# Altium footprint library FootPrint_lib.PcbLib: 24 footprints (part 2 of 2)
Each footprint in its own frame and in the unit in brackets; x right, y up, seen from the top. Pads: shape width x height; smd on the part's side, far side on the other; paste and mask are expansions set on the pad; w line width, h text height; cw(c..) or ccw(c..) is an arc to the next point about the centre after c.
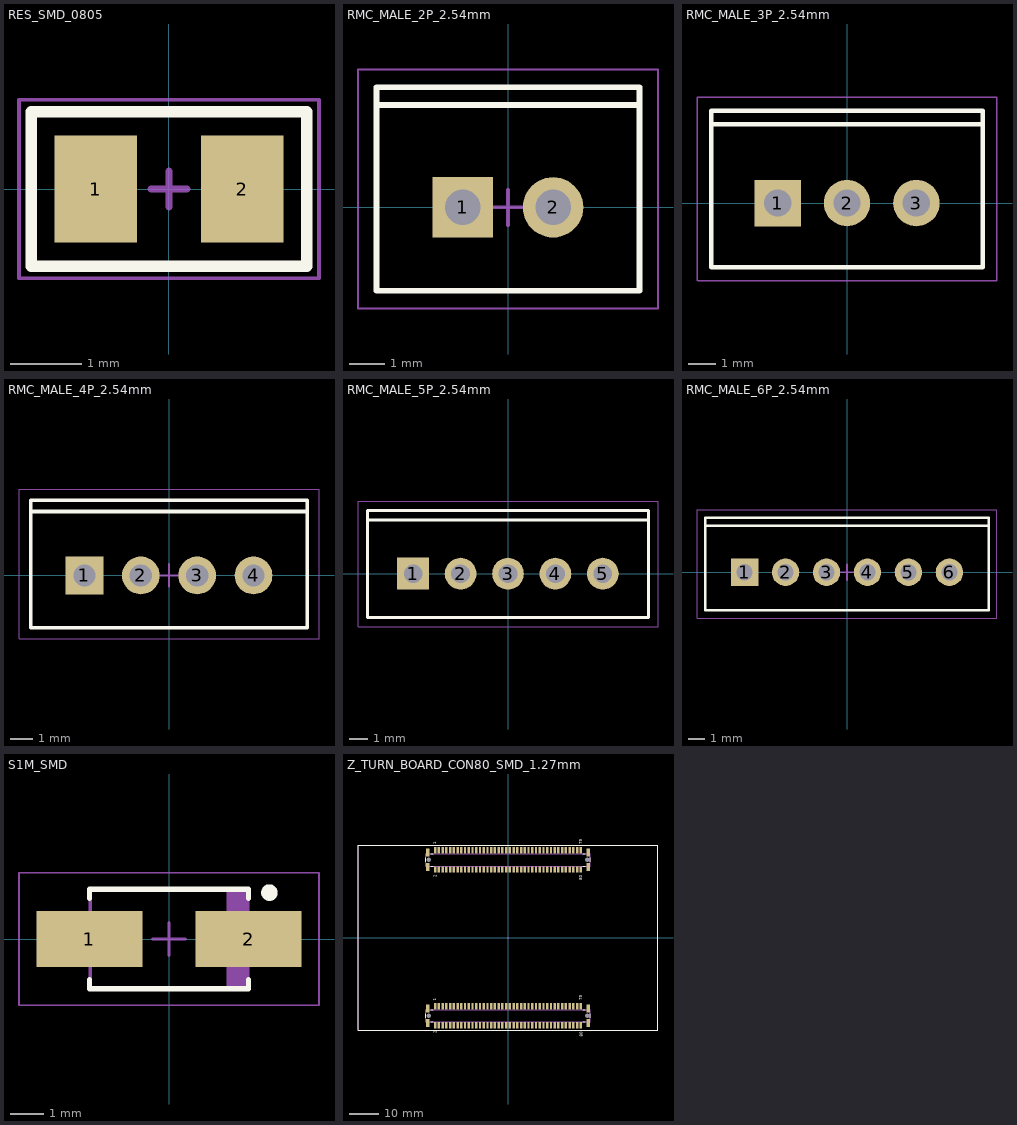
[diagram p1: the footprints below, top view; thin cyan lines are the x and y axes]

## RES_SMD_0805 [mm] "Chip Resistor, 2-Leads, Body 2.00x1.25mm, IPC Low Density"
height 0.55
pads (2):
  rect 1.15x1.5 smd: 1(-1.025,0) 2(1.025,0)
Top Overlay:
  lines w0.16: -1.93,-1.08 1.93,-1.08 1.93,1.08 -1.93,1.08 -1.93,-1.08
Top Assembly:
  lines w0.1: -1.925,-1.075 -1.925,1.075 1.925,1.075 1.925,-1.075 -1.925,-1.075
Top Courtyard:
  lines w0.05: -2.1,-1.25 2.1,-1.25 2.1,1.25 -2.1,1.25 -2.1,-1.25
Top Component Center:
  lines w0.1: -0.25,0 0.25,0 ; 0,-0.25 0,0.25
3D body "RES_SMD_0805.step": height 0.55, standoff 0, extent -1.05,-0.7 1.05,0.7

## RMC_MALE_2P_2.54mm [mm] "P2.54mm_l7.4mm_W7.4mm_H9.4mm"
height 9.4
pads (2):
  rect 1.7x1.7 hole 1: 1(-1.27,0)
  round 1.7 hole 1: 2(1.27,0)
Top Overlay:
  lines w0.16: -3.7,2.88 3.7,2.88 ; -3.7,-2.35 3.7,-2.35 3.7,3.38 -3.7,3.38 -3.7,-2.35
Top Assembly:
  lines w0.1: -3.72,3.38 -3.7,-2.35 3.7,-2.35 3.7,3.38 -3.7,3.38 ; -3.7,2.88 3.7,2.88
  text "'.Designator'" at -3.646,-0.538 h1.52
Top Courtyard:
  lines w0.05: -4.22,-2.85 -4.22,3.88 ; -4.2,-2.85 4.2,-2.85 ; -4.2,3.88 4.2,3.88 ; 4.22,-2.85 4.22,3.88
Top Component Center:
  lines w0.1: -0.5,0 0.5,0 ; 0,-0.5 0,0.5
3D body "RMC_TH_x2.STEP": height 7, standoff -3.05, extent -3.72,-2.375 3.72,3.375

## RMC_MALE_3P_2.54mm [mm] "P2.54mm_L9.94mm_W7.4mm_H9.4mm"
height 9.4
pads (3):
  rect 1.7x1.7 hole 1: 1(-2.54,0)
  round 1.7 hole 1: 2(0,0) 3(2.54,0)
Top Overlay:
  lines w0.16: -4.97,2.88 4.97,2.88 ; -4.97,-2.35 -4.97,3.38 4.97,3.38 4.97,-2.35 -4.97,-2.35
Top Assembly:
  lines w0.1: -4.99,3.38 -4.97,-2.35 4.97,-2.35 4.97,3.38 -4.97,3.38 ; -4.97,2.88 4.97,2.88
  text "'.Designator'" at -4.916,-0.538 h1.52
Top Courtyard:
  lines w0.05: -5.49,-2.85 -5.49,3.88 5.49,3.88 5.49,-2.85 -5.47,-2.85
Top Component Center:
  lines w0.1: -0.5,0 0.5,0 ; 0,-0.5 0,0.5
3D body "RMC_TH_x3.STEP": height 7, standoff -3.05, extent -4.99,-2.375 4.99,3.375

## RMC_MALE_4P_2.54mm [mm] "P2.54mm_L12.48mm_W7.4mm_H9.4mm"
height 9.4
pads (4):
  rect 1.7x1.7 hole 1: 1(-3.81,0)
  round 1.7 hole 1: 2(-1.27,0) 3(1.27,0) 4(3.81,0)
Top Overlay:
  lines w0.16: -6.24,2.88 6.24,2.88 ; -6.24,-2.35 -6.24,3.38 6.24,3.38 6.24,-2.35 -6.24,-2.35
Top Assembly:
  lines w0.1: -6.24,2.88 6.24,2.88 ; -6.24,-2.35 -6.24,3.38 6.24,3.38 6.24,-2.35 -6.24,-2.35
  text "'.Designator'" at -6.186,-0.538 h1.52
Top Courtyard:
  lines w0.05: -6.76,-2.85 -6.76,3.88 6.76,3.88 6.76,-2.85 -6.74,-2.85
Top Component Center:
  lines w0.1: -0.5,0 0.5,0 ; 0,-0.5 0,0.5
3D body "RMC_TH_x4.STEP": height 7, standoff -3.05, extent -6.26,-2.375 6.26,3.375

## RMC_MALE_5P_2.54mm [mm] "P2.54mm_L15.02mm_W7.4mm_H9.4mm"
height 9.4
pads (5):
  rect 1.7x1.7 hole 1: 1(-5.08,0)
  round 1.7 hole 1: 2(-2.54,0) 3(0,0) 4(2.54,0) 5(5.08,0)
Top Overlay:
  lines w0.16: -7.51,2.88 7.51,2.88 ; -7.51,-2.35 7.51,-2.35 7.51,3.38 -7.51,3.38 -7.51,-2.35
Top Assembly:
  lines w0.1: -7.51,2.88 7.51,2.88 ; -7.51,-2.35 7.51,-2.35 7.51,3.38 -7.51,3.38 -7.51,-2.35
  text "'.Designator'" at -7.456,-0.538 h1.52
Top Courtyard:
  lines w0.05: -8.03,-2.85 -8.03,3.88 8.03,3.88 8.03,-2.85 -8.01,-2.85
Top Component Center:
  lines w0.1: -0.5,0 0.5,0 ; 0,-0.5 0,0.5
3D body "RMC_TH_x5.STEP": height 7, standoff -3.05, extent -7.53,-2.375 7.53,3.375

## RMC_MALE_6P_2.54mm [mm] "P2.54mm_L15.02mm_W7.4mm_H9.4mm"
height 9.4
pads (6):
  rect 1.7x1.7 hole 1: 1(-6.35,0)
  round 1.7 hole 1: 2(-3.81,0) 3(-1.27,0) 4(1.27,0) 5(3.81,0) 6(6.35,0)
Top Overlay:
  lines w0.16: -8.78,2.88 8.78,2.88 ; -8.78,-2.35 -8.78,3.38 8.78,3.38 8.78,-2.35 -8.78,-2.35
Top Assembly:
  lines w0.1: -8.78,2.88 8.78,2.88 ; -8.78,-2.35 8.78,-2.35 8.78,3.38 -8.78,3.38 -8.78,-2.35
  text "'.Designator'" at -8.726,-0.538 h1.52
Top Courtyard:
  lines w0.05: -9.3,-2.85 -9.3,3.88 9.3,3.88 9.3,-2.85 -9.28,-2.85
Top Component Center:
  lines w0.1: -0.5,0 0.5,0 ; 0,-0.5 0,0.5
3D body "RMC_TH_x6.STEP": height 7, standoff -3.05, extent -8.8,-2.375 8.8,3.375

## S1M_SMD [mm] "Molded Diode, 2-Leads, Body 4.38x2.73mm, IPC Low Density"
height 2.7
pads (2):
  rect 3.2x1.7 smd: 1(-2.4,0) 2(2.4,0)
Top Overlay:
  circle w0.25: c3.03,1.4 r0.125
  lines w0.16: -2.4,-1.23 -2.4,-1.5 2.4,-1.5 2.4,-1.23 ; -2.4,1.23 -2.4,1.5 2.4,1.5 2.4,1.23
Top Assembly:
  rectangle: 1.736,-1.475 2.375,1.475
  lines w0.1: -2.375,-1.475 2.375,-1.475 2.375,1.475 -2.375,1.475 -2.375,-1.475
Top Courtyard:
  lines w0.05: -4.525,-2 4.525,-2 4.525,2 -4.525,2 -4.525,-2
Top Component Center:
  lines w0.1: -0.5,0 0.5,0 ; 0,-0.5 0,0.5
3D body "S1M_SMD.step": height 2.7, standoff 0, extent -2.595,-1.475 2.595,1.475

## Z_TURN_BOARD_CON80_SMD_1.27mm [mm] "Pitch 1.27mm"
height 50
pads (172):
  rect 0.8x2.1 smd: CN1_1(-24.765,-23.25) CN1_2(-24.765,-29.75) CN1_3(-23.495,-23.25) CN1_4(-23.495,-29.75) CN1_5(-22.225,-23.25) CN1_6(-22.225,-29.75) CN1_7(-20.955,-23.25) CN1_8(-20.955,-29.75) CN1_9(-19.685,-23.25) CN1_10(-19.685,-29.75) CN1_11(-18.415,-23.25) CN1_12(-18.415,-29.75) CN1_13(-17.145,-23.25) CN1_14(-17.145,-29.75) CN1_15(-15.875,-23.25) CN1_16(-15.875,-29.75) CN1_17(-14.605,-23.25) CN1_18(-14.605,-29.75) CN1_19(-13.335,-23.25) CN1_20(-13.335,-29.75) CN1_21(-12.065,-23.25) CN1_22(-12.065,-29.75) CN1_23(-10.795,-23.25) CN1_24(-10.795,-29.75) CN1_25(-9.525,-23.25) CN1_26(-9.525,-29.75) CN1_27(-8.255,-23.25) CN1_28(-8.255,-29.75) CN1_29(-6.985,-23.25) CN1_30(-6.985,-29.75) CN1_31(-5.715,-23.25) CN1_32(-5.715,-29.75) CN1_33(-4.445,-23.25) CN1_34(-4.445,-29.75) CN1_35(-3.175,-23.25) CN1_36(-3.175,-29.75) CN1_37(-1.905,-23.25) CN1_38(-1.905,-29.75) CN1_39(-0.635,-23.25) CN1_40(-0.635,-29.75) CN1_41(0.635,-23.25) CN1_42(0.635,-29.75) CN1_43(1.905,-23.25) CN1_44(1.905,-29.75) CN1_45(3.175,-23.25) CN1_46(3.175,-29.75) CN1_47(4.445,-23.25) CN1_48(4.445,-29.75) CN1_49(5.715,-23.25) CN1_50(5.715,-29.75) CN1_51(6.985,-23.25) CN1_52(6.985,-29.75) CN1_53(8.255,-23.25) CN1_54(8.255,-29.75) CN1_55(9.525,-23.25) CN1_56(9.525,-29.75) CN1_57(10.795,-23.25) CN1_58(10.795,-29.75) CN1_59(12.065,-23.25) CN1_60(12.065,-29.75) CN1_61(13.335,-23.25) CN1_62(13.335,-29.75) CN1_63(14.605,-23.25) CN1_64(14.605,-29.75) CN1_65(15.875,-23.25) CN1_66(15.875,-29.75) CN1_67(17.145,-23.25) CN1_68(17.145,-29.75) CN1_69(18.415,-23.25) CN1_70(18.415,-29.75) CN1_71(19.685,-23.25) CN1_72(19.685,-29.75) CN1_73(20.955,-23.25) CN1_74(20.955,-29.75) CN1_75(22.225,-23.25) CN1_76(22.225,-29.75) CN1_77(23.495,-23.25) CN1_78(23.495,-29.75) CN1_79(24.765,-23.25) CN1_80(24.765,-29.75) CN2_1(-24.765,29.75) CN2_2(-24.765,23.25) CN2_3(-23.495,29.75) CN2_4(-23.495,23.25) CN2_5(-22.225,29.75) CN2_6(-22.225,23.25) CN2_7(-20.955,29.75) CN2_8(-20.955,23.25) CN2_9(-19.685,29.75) CN2_10(-19.685,23.25) CN2_11(-18.415,29.75) CN2_12(-18.415,23.25) CN2_13(-17.145,29.75) CN2_14(-17.145,23.25) CN2_15(-15.875,29.75) CN2_16(-15.875,23.25) CN2_17(-14.605,29.75) CN2_18(-14.605,23.25) CN2_19(-13.335,29.75) CN2_20(-13.335,23.25) CN2_21(-12.065,29.75) CN2_22(-12.065,23.25) CN2_23(-10.795,29.75) CN2_24(-10.795,23.25) CN2_25(-9.525,29.75) CN2_26(-9.525,23.25) CN2_27(-8.255,29.75) CN2_28(-8.255,23.25) CN2_29(-6.985,29.75) CN2_30(-6.985,23.25) CN2_31(-5.715,29.75) CN2_32(-5.715,23.25) CN2_33(-4.445,29.75) CN2_34(-4.445,23.25) CN2_35(-3.175,29.75) CN2_36(-3.175,23.25) CN2_37(-1.905,29.75) CN2_38(-1.905,23.25) CN2_39(-0.635,29.75) CN2_40(-0.635,23.25) CN2_41(0.635,29.75) CN2_42(0.635,23.25) CN2_43(1.905,29.75) CN2_44(1.905,23.25) CN2_45(3.175,29.75) CN2_46(3.175,23.25) CN2_47(4.445,29.75) CN2_48(4.445,23.25) CN2_49(5.715,29.75) CN2_50(5.715,23.25) CN2_51(6.985,29.75) CN2_52(6.985,23.25) CN2_53(8.255,29.75) CN2_54(8.255,23.25) CN2_55(9.525,29.75) CN2_56(9.525,23.25) CN2_57(10.795,29.75) CN2_58(10.795,23.25) CN2_59(12.065,29.75) CN2_60(12.065,23.25) CN2_61(13.335,29.75) CN2_62(13.335,23.25) CN2_63(14.605,29.75) CN2_64(14.605,23.25) CN2_65(15.875,29.75) CN2_66(15.875,23.25) CN2_67(17.145,29.75) CN2_68(17.145,23.25) CN2_69(18.415,29.75) CN2_70(18.415,23.25) CN2_71(19.685,29.75) CN2_72(19.685,23.25) CN2_73(20.955,29.75) CN2_74(20.955,23.25) CN2_75(22.225,29.75) CN2_76(22.225,23.25) CN2_77(23.495,29.75) CN2_78(23.495,23.25) CN2_79(24.765,29.75) CN2_80(24.765,23.25)
  rect 1.2x2.7 smd: CN1_81(-27.26,-24.05) CN1_82(-27.26,-28.95) CN1_83(27.26,-24.05) CN1_84(27.26,-28.95) CN2_81(-27.26,28.95) CN2_82(-27.26,24.05) CN2_83(27.26,28.95) CN2_84(27.26,24.05)
  round 0 hole 1.6: CN1_85(-26.975,-26.5) CN1_85(-26.975,26.5) CN1_86(26.975,-26.5) CN1_86(26.975,26.5)
Top Overlay:
  lines w0.2: -51,-31.5 51,-31.5 51,31.5 -51,31.5 -51,-31.5
  lines w0.254: -27.94,-27.2 -27.94,-25.8 ; -27.94,25.8 -27.94,27.2 ; -26.3,-28.6 -25.5,-28.6 ; -26.3,-24.4 -25.5,-24.4 ; -26.3,24.4 -25.5,24.4 ; -26.3,28.6 -25.5,28.6 ; 25.5,-28.6 26.3,-28.6 ; 25.5,-24.4 26.3,-24.4 ; 25.5,24.4 26.3,24.4 ; 25.5,28.6 26.3,28.6 ; 27.94,-27.2 27.94,-25.8 ; 27.94,25.8 27.94,27.2
  text "2" at -24.246,-32.45 h1
  text "1" at -24.348,-21.35 h1
  text "80" at 25.35,-33.65 h1
  text "79" at 25.25,-21.25 h1
  text "2" at -24.246,20.55 h1
  text "80" at 25.25,19.65 h1
  text "79" at 25.25,31.75 h1
  text "1" at -24.349,31.849 h1
Top Assembly:
  lines w0.2: -51,-31.5 51,-31.5 51,31.5 -51,31.5 -51,-31.5 ; -27.94,-28.6 27.94,-28.6 27.94,-24.4 -27.94,-24.4 -27.94,-28.6 ; -27.94,24.4 27.94,24.4 27.94,28.6 -27.94,28.6 -27.94,24.4
  text "'.Designator'" at -8.646,-0.538 h1.52
  text "CN1" at -1.204,-26.984 h1.52
  text "CN2" at -1.293,26.016 h1.52
Top Courtyard:
  lines w0.05: -51,-31.5 -51,31.5 51,31.5 51,-31.5 -51,-31.5
Top Component Center:
  lines w0.2: -0.25,0 0.25,0 ; 0,-0.25 0,0.25
3D body "80Pin_Connector_1.27mm-19.09.2020.STEP": height 6.75, standoff 0, extent -27.94,22.9 27.94,30.1
3D body "80Pin_Connector_1.27mm-19.09.2020.STEP": height 6.75, standoff 0, extent -27.94,-30.1 27.94,-22.9